# EAGLE library part LTC3814-5 (library PowerProducts)
60V Current Mode Synchronous Step-Up Controller
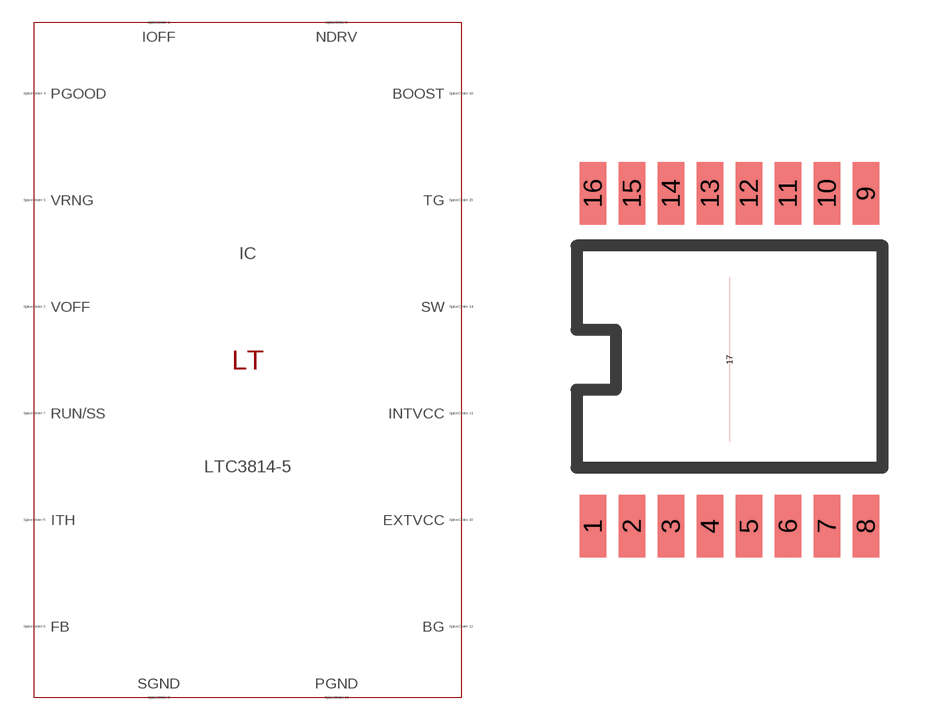
[diagram p346: symbol with the pads of TSSOP16BA(FE); footprint TSSOP16BA(FE)]

Designator prefix IC

## LTC3814-5 (SPICEMODEL: LTC3814-5.sub; SPICEPREFIX: X; VALUE2: LTC3814-5)  [TSSOP16BA(FE)]
1  IOFF  pas
2  VOFF  pas
3  VRNG  pas
4  PGOOD  pas
5  ITH  pas
6  FB  pas
7  RUN/SS  pas
8  SGND  pas
9  NDRV  pas
10  EXTVCC  pas
11  INTVCC  pas
12  BG  pas
13  PGND  pas
14  SW  pas
15  TG  pas
16  BOOST  pas
17  SGND  pas

## Footprint TSSOP16BA(FE) (pad centres in mm)
Package generated from: TSSOP16BA(FE).asc (!PADS-POWERPCB-V5.0-BASIC! DESIGN DATABASE ASCII FILE 1.0) with :import-pads-powerpcb-v5.ulp Version 1.0.1 at 04.10.2012 14:11:39
smd 0.66 x 1.575: 1 -3.413,-4.162; 2 -2.438,-4.162; 3 -1.462,-4.162; 4 -0.487,-4.162; 5 0.487,-4.162; 6 1.462,-4.162; 7 2.438,-4.162; 8 3.413,-4.162; 9 3.413,4.162; 10 2.438,4.162; 11 1.462,4.162; 12 0.487,4.162; 13 -0.487,4.162; 14 -1.462,4.162; 15 -2.438,4.162; 16 -3.413,4.162
smd 0 x 4.11: 17 0,0